# EAGLE library part 11P (library con-degson)
DEGSON DG55 CONNECTOR
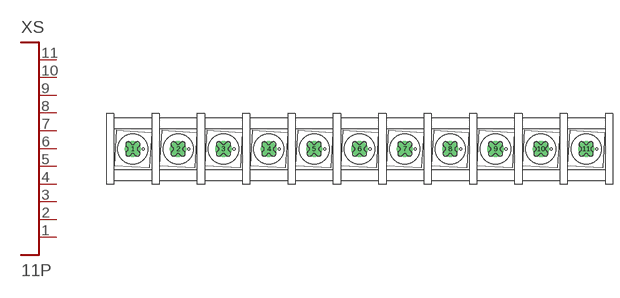
[diagram p5: symbol with the pads of DG55CB-11P-1; footprint DG55CB-11P-1]

Designator prefix XS

## 11P  [DG55CB-11P-1]
1  P$1
2  P$2
3  P$3
4  P$4
5  P$5
6  P$6
7  P$7
8  P$8
9  P$9
10  P$10
11  P$11

## Footprint DG55CB-11P-1 (pad centres in mm)
DG55
drill 1.8 pad 3.6: 1 -50,0; 2 -40,0; 3 -30,0; 4 -20,0; 5 -10,0; 6 0,0; 7 10,0; 8 20,0; 9 30,0; 10 40,0; 11 50,0